# EAGLE library part CPL-MDR-DRV8825 (library TinWhiskers)
Motor Driver: DRV8825 (Texas Instrument); Package: (SMT) 28-HSSOP; Datasheet: http://www.ti.com/lit/ds/symlink/drv8825.pdf
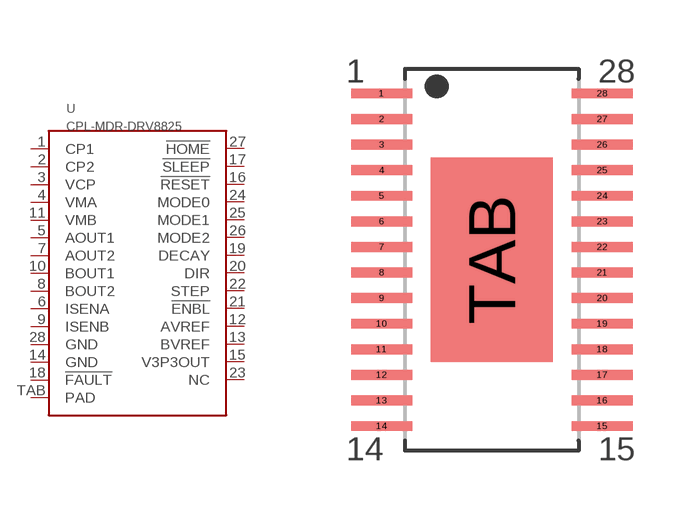
[diagram p22: symbol with the pads of 28-HSSOP; footprint 28-HSSOP]

Designator prefix U

## CPL-MDR-DRV8825  [28-HSSOP]
1  CP1
2  CP2
3  VCP
4  VMA
5  AOUT1
6  ISENA
7  AOUT2
8  BOUT2
9  ISENB
10  BOUT1
11  VMB
12  AVREF
13  BVREF
14  GND
15  V3P3OUT
16  !RESET
17  !SLEEP
18  !FAULT
19  DECAY
20  DIR
21  !ENBL
22  STEP
23  NC
24  MODE0
25  MODE1
26  MODE2
27  !HOME
28  GND
TAB  PAD

## Footprint 28-HSSOP (pad centres in mm)
HSSOP (28-Pin); Source: Texas Instruments
smd 1.55 x 0.25: 1 -2.8,4.225; 2 -2.8,3.575; 3 -2.8,2.925; 4 -2.8,2.275; 5 -2.8,1.625; 6 -2.8,0.975; 7 -2.8,0.325; 8 -2.8,-0.325; 9 -2.8,-0.975; 10 -2.8,-1.625; 11 -2.8,-2.275; 12 -2.8,-2.925; 13 -2.8,-3.575; 14 -2.8,-4.225; 15 2.8,-4.225; 16 2.8,-3.575; 17 2.8,-2.925; 18 2.8,-2.275; 19 2.8,-1.625; 20 2.8,-0.975; 21 2.8,-0.325; 22 2.8,0.325; 23 2.8,0.975; 24 2.8,1.625; 25 2.8,2.275; 26 2.8,2.925; 27 2.8,3.575; 28 2.8,4.225
smd 3.1 x 5.18: TAB 0,0